# Altium footprint library Connector_PinSocket_1.27mm.PcbLib: 246 footprints (part 4 of 16)
Each footprint in its own frame and in the unit in brackets; x right, y up, seen from the top. Pads: shape width x height; smd on the part's side, far side on the other; paste and mask are expansions set on the pad; w line width, h text height; cw(c..) or ccw(c..) is an arc to the next point about the centre after c.
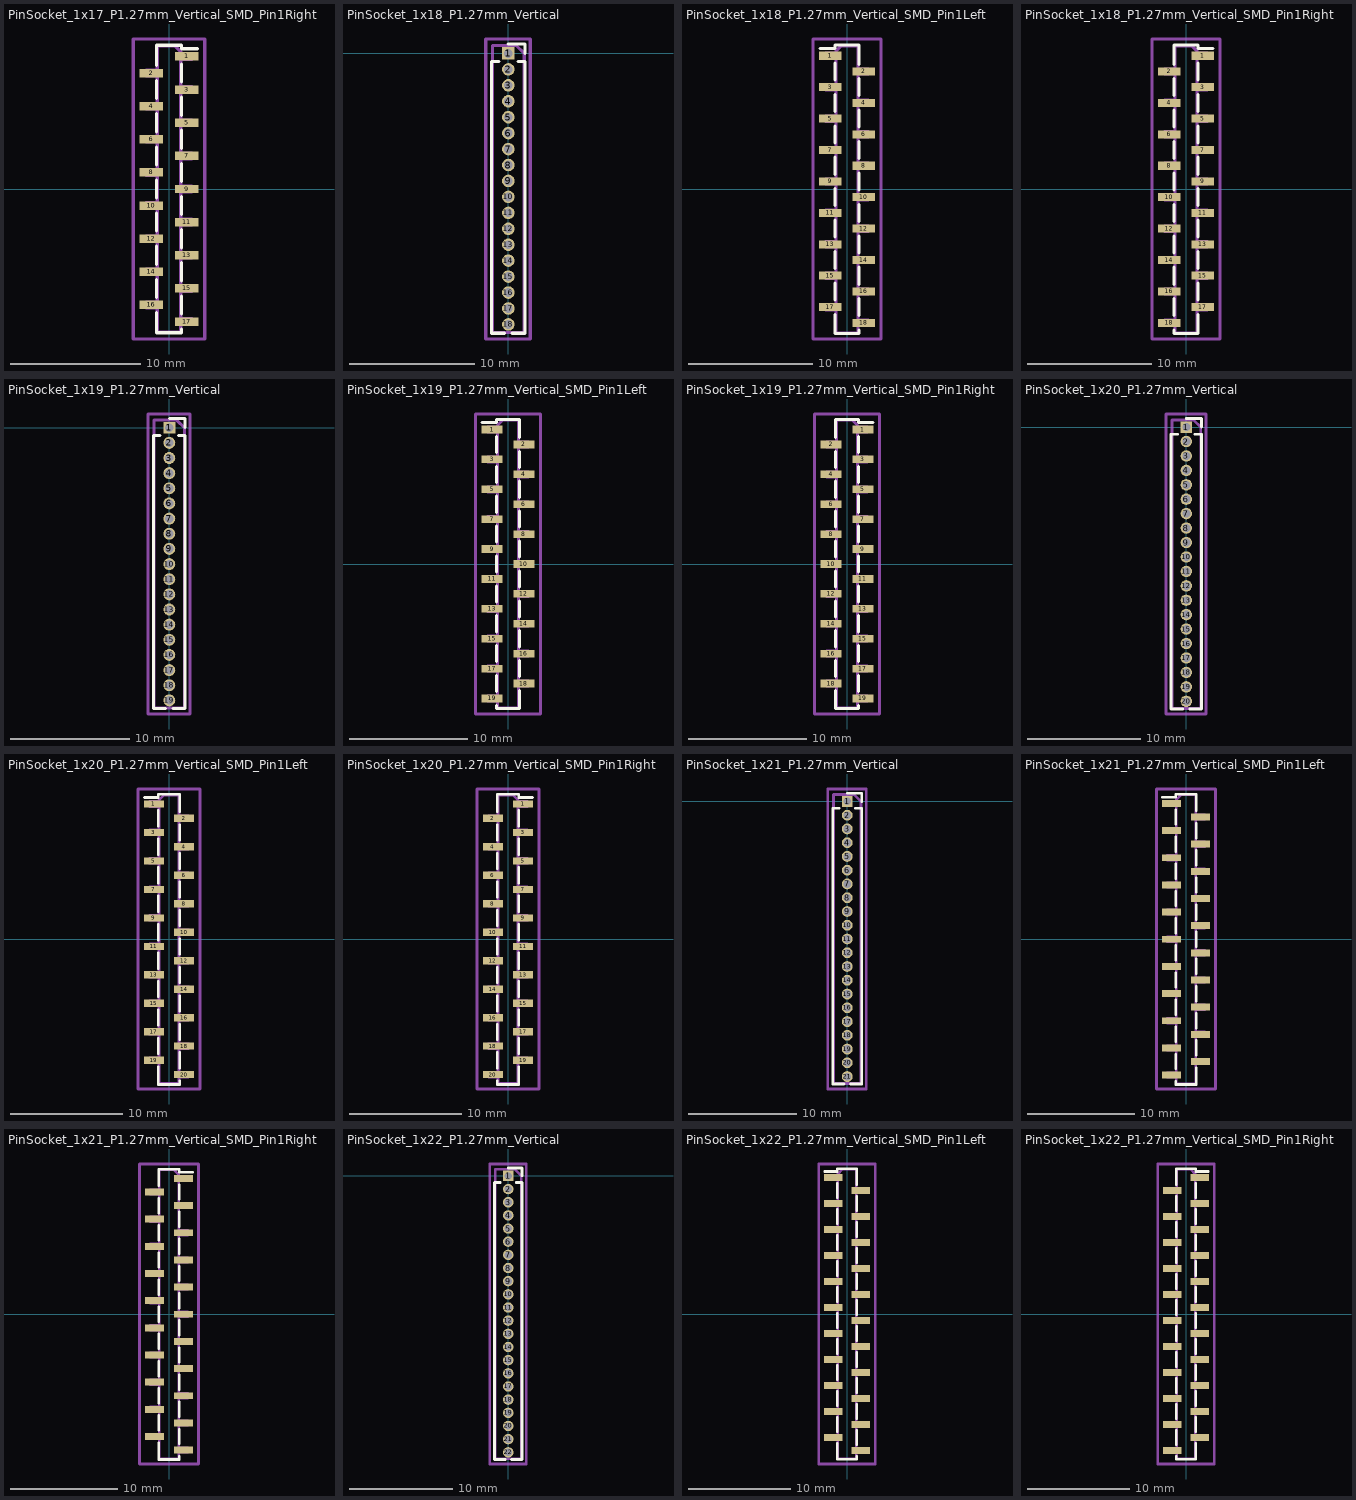
[diagram p3: the footprints below, top view; thin cyan lines are the x and y axes]

## PinSocket_1x17_P1.27mm_Vertical_SMD_Pin1Right [mm]
pads (17):
  rect 1.8x0.65 smd: 1(1.35,10.16) 2(-1.35,8.89) 3(1.35,7.62) 4(-1.35,6.35) 5(1.35,5.08) 6(-1.35,3.81) 7(1.35,2.54) 8(-1.35,1.27) 9(1.35,0) 10(-1.35,-1.27) 11(1.35,-2.54) 12(-1.35,-3.81) 13(1.35,-5.08) 14(-1.35,-6.35) 15(1.35,-7.62) 16(-1.35,-8.89) 17(1.35,-10.16)
F.SilkS:
  lines w0.254: -0.96,-9.475 -0.96,-11.03 0.96,-11.03 0.96,-10.745 ; -0.96,-8.305 -0.96,-6.935 ; -0.96,-5.765 -0.96,-4.395 ; -0.96,-3.225 -0.96,-1.855 ; -0.96,-0.685 -0.96,0.685 ; -0.96,1.855 -0.96,3.225 ; -0.96,4.395 -0.96,5.765 ; -0.96,6.935 -0.96,8.305 ; -0.96,9.475 -0.96,11.03 0.96,11.03 0.96,10.745 2.19,10.745 ; 0.96,-9.575 0.96,-8.205 ; 0.96,-7.035 0.96,-5.665 ; 0.96,-4.495 0.96,-3.125 ; 0.96,-1.955 0.96,-0.585 ; 0.96,0.585 0.96,1.955 ; 0.96,3.125 0.96,4.495 ; 0.96,5.665 0.96,7.035 ; 0.96,8.205 0.96,9.575
Top Assembly:
  lines w0.254: -0.9,-9.1 -1.75,-9.1 -1.75,-8.68 -0.9,-8.68 ; -0.9,-6.56 -1.75,-6.56 -1.75,-6.14 -0.9,-6.14 ; -0.9,-4.02 -1.75,-4.02 -1.75,-3.6 -0.9,-3.6 ; -0.9,-1.48 -1.75,-1.48 -1.75,-1.06 -0.9,-1.06 ; -0.9,1.06 -1.75,1.06 -1.75,1.48 -0.9,1.48 ; -0.9,3.6 -1.75,3.6 -1.75,4.02 -0.9,4.02 ; -0.9,6.14 -1.75,6.14 -1.75,6.56 -0.9,6.56 ; -0.9,8.68 -1.75,8.68 -1.75,9.1 -0.9,9.1 ; 0.9,-10.37 1.75,-10.37 1.75,-9.95 0.9,-9.95 ; 0.9,-7.83 1.75,-7.83 1.75,-7.41 0.9,-7.41 ; 0.9,-5.29 1.75,-5.29 1.75,-4.87 0.9,-4.87 ; 0.9,-2.75 1.75,-2.75 1.75,-2.33 0.9,-2.33 ; 0.9,-0.21 1.75,-0.21 1.75,0.21 0.9,0.21 ; 0.9,2.33 1.75,2.33 1.75,2.75 0.9,2.75 ; 0.9,4.87 1.75,4.87 1.75,5.29 0.9,5.29 ; 0.9,7.41 1.75,7.41 1.75,7.83 0.9,7.83 ; 0.9,9.95 1.75,9.95 1.75,10.37 0.9,10.37 ; -0.9,-10.97 0.9,-10.97 0.9,10.52 0.45,10.97 -0.9,10.97 -0.9,-10.97
  text "'.Designator'" at 0.84,-4.047 h1
Top Courtyard:
  lines w0.254: -2.75,-11.5 2.75,-11.5 2.75,11.5 -2.75,11.5 -2.75,-11.5
Top Designator:
  text ".Designator" at -7.618,-0.508 h1.52

## PinSocket_1x18_P1.27mm_Vertical [mm]
pads (18):
  rect 1x1 hole 0.7: 1(0,0)
  round 1 hole 0.7: 2(0,-1.27) 3(0,-2.54) 4(0,-3.81) 5(0,-5.08) 6(0,-6.35) 7(0,-7.62) 8(0,-8.89) 9(0,-10.16) 10(0,-11.43) 11(0,-12.7) 12(0,-13.97) 13(0,-15.24) 14(0,-16.51) 15(0,-17.78) 16(0,-19.05) 17(0,-20.32) 18(0,-21.59)
F.SilkS:
  lines w0.254: -0.76,-0.635 -1.33,-0.635 -1.33,-22.285 -0.308,-22.285 ; 0,0.76 1.33,0.76 1.33,0 ; 0.308,-22.285 1.33,-22.285 1.33,-0.635 0.76,-0.635
Top Assembly:
  lines w0.254: -1.27,-22.225 1.27,-22.225 1.27,0 0.635,0.635 -1.27,0.635 -1.27,-22.225
  text "'.Designator'" at 0.84,-14.842 h1
Top Courtyard:
  lines w0.254: -1.8,-22.75 1.75,-22.75 1.75,1.15 -1.8,1.15 -1.8,-22.75
Top Designator:
  text ".Designator" at -7.643,-11.308 h1.52

## PinSocket_1x18_P1.27mm_Vertical_SMD_Pin1Left [mm]
pads (18):
  rect 1.8x0.65 smd: 1(-1.35,10.795) 2(1.35,9.525) 3(-1.35,8.255) 4(1.35,6.985) 5(-1.35,5.715) 6(1.35,4.445) 7(-1.35,3.175) 8(1.35,1.905) 9(-1.35,0.635) 10(1.35,-0.635) 11(-1.35,-1.905) 12(1.35,-3.175) 13(-1.35,-4.445) 14(1.35,-5.715) 15(-1.35,-6.985) 16(1.35,-8.255) 17(-1.35,-9.525) 18(1.35,-10.795)
F.SilkS:
  lines w0.254: -2.19,11.38 -0.96,11.38 -0.96,11.665 0.96,11.665 0.96,10.11 ; -0.96,-10.11 -0.96,-11.665 0.96,-11.665 0.96,-11.38 ; -0.96,-8.94 -0.96,-7.57 ; -0.96,-6.4 -0.96,-5.03 ; -0.96,-3.86 -0.96,-2.49 ; -0.96,-1.32 -0.96,0.05 ; -0.96,1.22 -0.96,2.59 ; -0.96,3.76 -0.96,5.13 ; -0.96,6.3 -0.96,7.67 ; -0.96,8.84 -0.96,10.21 ; 0.96,-10.21 0.96,-8.84 ; 0.96,-7.67 0.96,-6.3 ; 0.96,-5.13 0.96,-3.76 ; 0.96,-2.59 0.96,-1.22 ; 0.96,-0.05 0.96,1.32 ; 0.96,2.49 0.96,3.86 ; 0.96,5.03 0.96,6.4 ; 0.96,7.57 0.96,8.94
Top Assembly:
  lines w0.254: -0.9,-9.735 -1.75,-9.735 -1.75,-9.315 -0.9,-9.315 ; -0.9,-7.195 -1.75,-7.195 -1.75,-6.775 -0.9,-6.775 ; -0.9,-4.655 -1.75,-4.655 -1.75,-4.235 -0.9,-4.235 ; -0.9,-2.115 -1.75,-2.115 -1.75,-1.695 -0.9,-1.695 ; -0.9,0.425 -1.75,0.425 -1.75,0.845 -0.9,0.845 ; -0.9,2.965 -1.75,2.965 -1.75,3.385 -0.9,3.385 ; -0.9,5.505 -1.75,5.505 -1.75,5.925 -0.9,5.925 ; -0.9,8.045 -1.75,8.045 -1.75,8.465 -0.9,8.465 ; -0.9,10.585 -1.75,10.585 -1.75,11.005 -0.9,11.005 ; 0.9,-11.005 1.75,-11.005 1.75,-10.585 0.9,-10.585 ; 0.9,-8.465 1.75,-8.465 1.75,-8.045 0.9,-8.045 ; 0.9,-5.925 1.75,-5.925 1.75,-5.505 0.9,-5.505 ; 0.9,-3.385 1.75,-3.385 1.75,-2.965 0.9,-2.965 ; 0.9,-0.845 1.75,-0.845 1.75,-0.425 0.9,-0.425 ; 0.9,1.695 1.75,1.695 1.75,2.115 0.9,2.115 ; 0.9,4.235 1.75,4.235 1.75,4.655 0.9,4.655 ; 0.9,6.775 1.75,6.775 1.75,7.195 0.9,7.195 ; 0.9,9.315 1.75,9.315 1.75,9.735 0.9,9.735 ; -0.9,-11.605 0.9,-11.605 0.9,11.605 -0.45,11.605 -0.9,11.155 -0.9,-11.605
  text "'.Designator'" at 0.84,-4.047 h1
Top Courtyard:
  lines w0.254: -2.75,-12.1 2.75,-12.1 2.75,12.15 -2.75,12.15 -2.75,-12.1
Top Designator:
  text ".Designator" at -7.618,-0.483 h1.52

## PinSocket_1x18_P1.27mm_Vertical_SMD_Pin1Right [mm]
pads (18):
  rect 1.8x0.65 smd: 1(1.35,10.795) 2(-1.35,9.525) 3(1.35,8.255) 4(-1.35,6.985) 5(1.35,5.715) 6(-1.35,4.445) 7(1.35,3.175) 8(-1.35,1.905) 9(1.35,0.635) 10(-1.35,-0.635) 11(1.35,-1.905) 12(-1.35,-3.175) 13(1.35,-4.445) 14(-1.35,-5.715) 15(1.35,-6.985) 16(-1.35,-8.255) 17(1.35,-9.525) 18(-1.35,-10.795)
F.SilkS:
  lines w0.254: -0.96,-11.38 -0.96,-11.665 0.96,-11.665 0.96,-10.11 ; -0.96,-10.21 -0.96,-8.84 ; -0.96,-7.67 -0.96,-6.3 ; -0.96,-5.13 -0.96,-3.76 ; -0.96,-2.59 -0.96,-1.22 ; -0.96,-0.05 -0.96,1.32 ; -0.96,2.49 -0.96,3.86 ; -0.96,5.03 -0.96,6.4 ; -0.96,7.57 -0.96,8.94 ; -0.96,10.11 -0.96,11.665 0.96,11.665 0.96,11.38 2.19,11.38 ; 0.96,-8.94 0.96,-7.57 ; 0.96,-6.4 0.96,-5.03 ; 0.96,-3.86 0.96,-2.49 ; 0.96,-1.32 0.96,0.05 ; 0.96,1.22 0.96,2.59 ; 0.96,3.76 0.96,5.13 ; 0.96,6.3 0.96,7.67 ; 0.96,8.84 0.96,10.21
Top Assembly:
  lines w0.254: -0.9,-11.005 -1.75,-11.005 -1.75,-10.585 -0.9,-10.585 ; -0.9,-8.465 -1.75,-8.465 -1.75,-8.045 -0.9,-8.045 ; -0.9,-5.925 -1.75,-5.925 -1.75,-5.505 -0.9,-5.505 ; -0.9,-3.385 -1.75,-3.385 -1.75,-2.965 -0.9,-2.965 ; -0.9,-0.845 -1.75,-0.845 -1.75,-0.425 -0.9,-0.425 ; -0.9,1.695 -1.75,1.695 -1.75,2.115 -0.9,2.115 ; -0.9,4.235 -1.75,4.235 -1.75,4.655 -0.9,4.655 ; -0.9,6.775 -1.75,6.775 -1.75,7.195 -0.9,7.195 ; -0.9,9.315 -1.75,9.315 -1.75,9.735 -0.9,9.735 ; 0.9,-9.735 1.75,-9.735 1.75,-9.315 0.9,-9.315 ; 0.9,-7.195 1.75,-7.195 1.75,-6.775 0.9,-6.775 ; 0.9,-4.655 1.75,-4.655 1.75,-4.235 0.9,-4.235 ; 0.9,-2.115 1.75,-2.115 1.75,-1.695 0.9,-1.695 ; 0.9,0.425 1.75,0.425 1.75,0.845 0.9,0.845 ; 0.9,2.965 1.75,2.965 1.75,3.385 0.9,3.385 ; 0.9,5.505 1.75,5.505 1.75,5.925 0.9,5.925 ; 0.9,8.045 1.75,8.045 1.75,8.465 0.9,8.465 ; 0.9,10.585 1.75,10.585 1.75,11.005 0.9,11.005 ; -0.9,-11.605 0.9,-11.605 0.9,11.155 0.45,11.605 -0.9,11.605 -0.9,-11.605
  text "'.Designator'" at 0.84,-4.047 h1
Top Courtyard:
  lines w0.254: -2.75,-12.1 2.75,-12.1 2.75,12.15 -2.75,12.15 -2.75,-12.1
Top Designator:
  text ".Designator" at -7.618,-0.483 h1.52

## PinSocket_1x19_P1.27mm_Vertical [mm]
pads (19):
  rect 1x1 hole 0.7: 1(0,0)
  round 1 hole 0.7: 2(0,-1.27) 3(0,-2.54) 4(0,-3.81) 5(0,-5.08) 6(0,-6.35) 7(0,-7.62) 8(0,-8.89) 9(0,-10.16) 10(0,-11.43) 11(0,-12.7) 12(0,-13.97) 13(0,-15.24) 14(0,-16.51) 15(0,-17.78) 16(0,-19.05) 17(0,-20.32) 18(0,-21.59) 19(0,-22.86)
F.SilkS:
  lines w0.254: -0.76,-0.635 -1.33,-0.635 -1.33,-23.555 -0.308,-23.555 ; 0,0.76 1.33,0.76 1.33,0 ; 0.308,-23.555 1.33,-23.555 1.33,-0.635 0.76,-0.635
Top Assembly:
  lines w0.254: -1.27,-23.495 1.27,-23.495 1.27,0 0.635,0.635 -1.27,0.635 -1.27,-23.495
  text "'.Designator'" at 0.84,-15.477 h1
Top Courtyard:
  lines w0.254: -1.8,-24 1.75,-24 1.75,1.15 -1.8,1.15 -1.8,-24
Top Designator:
  text ".Designator" at -7.643,-11.933 h1.52

## PinSocket_1x19_P1.27mm_Vertical_SMD_Pin1Left [mm]
pads (19):
  rect 1.8x0.65 smd: 1(-1.35,11.43) 2(1.35,10.16) 3(-1.35,8.89) 4(1.35,7.62) 5(-1.35,6.35) 6(1.35,5.08) 7(-1.35,3.81) 8(1.35,2.54) 9(-1.35,1.27) 10(1.35,0) 11(-1.35,-1.27) 12(1.35,-2.54) 13(-1.35,-3.81) 14(1.35,-5.08) 15(-1.35,-6.35) 16(1.35,-7.62) 17(-1.35,-8.89) 18(1.35,-10.16) 19(-1.35,-11.43)
F.SilkS:
  lines w0.254: -2.19,12.015 -0.96,12.015 -0.96,12.3 0.96,12.3 0.96,10.745 ; -0.96,-12.015 -0.96,-12.3 0.96,-12.3 0.96,-10.745 ; -0.96,-10.845 -0.96,-9.475 ; -0.96,-8.305 -0.96,-6.935 ; -0.96,-5.765 -0.96,-4.395 ; -0.96,-3.225 -0.96,-1.855 ; -0.96,-0.685 -0.96,0.685 ; -0.96,1.855 -0.96,3.225 ; -0.96,4.395 -0.96,5.765 ; -0.96,6.935 -0.96,8.305 ; -0.96,9.475 -0.96,10.845 ; 0.96,-9.575 0.96,-8.205 ; 0.96,-7.035 0.96,-5.665 ; 0.96,-4.495 0.96,-3.125 ; 0.96,-1.955 0.96,-0.585 ; 0.96,0.585 0.96,1.955 ; 0.96,3.125 0.96,4.495 ; 0.96,5.665 0.96,7.035 ; 0.96,8.205 0.96,9.575
Top Assembly:
  lines w0.254: -0.9,-11.64 -1.75,-11.64 -1.75,-11.22 -0.9,-11.22 ; -0.9,-9.1 -1.75,-9.1 -1.75,-8.68 -0.9,-8.68 ; -0.9,-6.56 -1.75,-6.56 -1.75,-6.14 -0.9,-6.14 ; -0.9,-4.02 -1.75,-4.02 -1.75,-3.6 -0.9,-3.6 ; -0.9,-1.48 -1.75,-1.48 -1.75,-1.06 -0.9,-1.06 ; -0.9,1.06 -1.75,1.06 -1.75,1.48 -0.9,1.48 ; -0.9,3.6 -1.75,3.6 -1.75,4.02 -0.9,4.02 ; -0.9,6.14 -1.75,6.14 -1.75,6.56 -0.9,6.56 ; -0.9,8.68 -1.75,8.68 -1.75,9.1 -0.9,9.1 ; -0.9,11.22 -1.75,11.22 -1.75,11.64 -0.9,11.64 ; 0.9,-10.37 1.75,-10.37 1.75,-9.95 0.9,-9.95 ; 0.9,-7.83 1.75,-7.83 1.75,-7.41 0.9,-7.41 ; 0.9,-5.29 1.75,-5.29 1.75,-4.87 0.9,-4.87 ; 0.9,-2.75 1.75,-2.75 1.75,-2.33 0.9,-2.33 ; 0.9,-0.21 1.75,-0.21 1.75,0.21 0.9,0.21 ; 0.9,2.33 1.75,2.33 1.75,2.75 0.9,2.75 ; 0.9,4.87 1.75,4.87 1.75,5.29 0.9,5.29 ; 0.9,7.41 1.75,7.41 1.75,7.83 0.9,7.83 ; 0.9,9.95 1.75,9.95 1.75,10.37 0.9,10.37 ; -0.9,-12.24 0.9,-12.24 0.9,12.24 -0.45,12.24 -0.9,11.79 -0.9,-12.24
  text "'.Designator'" at 0.84,-4.047 h1
Top Courtyard:
  lines w0.254: -2.75,-12.75 2.75,-12.75 2.75,12.75 -2.75,12.75 -2.75,-12.75
Top Designator:
  text ".Designator" at -7.618,-0.508 h1.52

## PinSocket_1x19_P1.27mm_Vertical_SMD_Pin1Right [mm]
pads (19):
  rect 1.8x0.65 smd: 1(1.35,11.43) 2(-1.35,10.16) 3(1.35,8.89) 4(-1.35,7.62) 5(1.35,6.35) 6(-1.35,5.08) 7(1.35,3.81) 8(-1.35,2.54) 9(1.35,1.27) 10(-1.35,0) 11(1.35,-1.27) 12(-1.35,-2.54) 13(1.35,-3.81) 14(-1.35,-5.08) 15(1.35,-6.35) 16(-1.35,-7.62) 17(1.35,-8.89) 18(-1.35,-10.16) 19(1.35,-11.43)
F.SilkS:
  lines w0.254: -0.96,-10.745 -0.96,-12.3 0.96,-12.3 0.96,-12.015 ; -0.96,-9.575 -0.96,-8.205 ; -0.96,-7.035 -0.96,-5.665 ; -0.96,-4.495 -0.96,-3.125 ; -0.96,-1.955 -0.96,-0.585 ; -0.96,0.585 -0.96,1.955 ; -0.96,3.125 -0.96,4.495 ; -0.96,5.665 -0.96,7.035 ; -0.96,8.205 -0.96,9.575 ; -0.96,10.745 -0.96,12.3 0.96,12.3 0.96,12.015 2.19,12.015 ; 0.96,-10.845 0.96,-9.475 ; 0.96,-8.305 0.96,-6.935 ; 0.96,-5.765 0.96,-4.395 ; 0.96,-3.225 0.96,-1.855 ; 0.96,-0.685 0.96,0.685 ; 0.96,1.855 0.96,3.225 ; 0.96,4.395 0.96,5.765 ; 0.96,6.935 0.96,8.305 ; 0.96,9.475 0.96,10.845
Top Assembly:
  lines w0.254: -0.9,-10.37 -1.75,-10.37 -1.75,-9.95 -0.9,-9.95 ; -0.9,-7.83 -1.75,-7.83 -1.75,-7.41 -0.9,-7.41 ; -0.9,-5.29 -1.75,-5.29 -1.75,-4.87 -0.9,-4.87 ; -0.9,-2.75 -1.75,-2.75 -1.75,-2.33 -0.9,-2.33 ; -0.9,-0.21 -1.75,-0.21 -1.75,0.21 -0.9,0.21 ; -0.9,2.33 -1.75,2.33 -1.75,2.75 -0.9,2.75 ; -0.9,4.87 -1.75,4.87 -1.75,5.29 -0.9,5.29 ; -0.9,7.41 -1.75,7.41 -1.75,7.83 -0.9,7.83 ; -0.9,9.95 -1.75,9.95 -1.75,10.37 -0.9,10.37 ; 0.9,-11.64 1.75,-11.64 1.75,-11.22 0.9,-11.22 ; 0.9,-9.1 1.75,-9.1 1.75,-8.68 0.9,-8.68 ; 0.9,-6.56 1.75,-6.56 1.75,-6.14 0.9,-6.14 ; 0.9,-4.02 1.75,-4.02 1.75,-3.6 0.9,-3.6 ; 0.9,-1.48 1.75,-1.48 1.75,-1.06 0.9,-1.06 ; 0.9,1.06 1.75,1.06 1.75,1.48 0.9,1.48 ; 0.9,3.6 1.75,3.6 1.75,4.02 0.9,4.02 ; 0.9,6.14 1.75,6.14 1.75,6.56 0.9,6.56 ; 0.9,8.68 1.75,8.68 1.75,9.1 0.9,9.1 ; 0.9,11.22 1.75,11.22 1.75,11.64 0.9,11.64 ; -0.9,-12.24 0.9,-12.24 0.9,11.79 0.45,12.24 -0.9,12.24 -0.9,-12.24
  text "'.Designator'" at 0.84,-4.047 h1
Top Courtyard:
  lines w0.254: -2.75,-12.75 2.75,-12.75 2.75,12.75 -2.75,12.75 -2.75,-12.75
Top Designator:
  text ".Designator" at -7.618,-0.508 h1.52

## PinSocket_1x20_P1.27mm_Vertical [mm]
pads (20):
  rect 1x1 hole 0.7: 1(0,0)
  round 1 hole 0.7: 2(0,-1.27) 3(0,-2.54) 4(0,-3.81) 5(0,-5.08) 6(0,-6.35) 7(0,-7.62) 8(0,-8.89) 9(0,-10.16) 10(0,-11.43) 11(0,-12.7) 12(0,-13.97) 13(0,-15.24) 14(0,-16.51) 15(0,-17.78) 16(0,-19.05) 17(0,-20.32) 18(0,-21.59) 19(0,-22.86) 20(0,-24.13)
F.SilkS:
  lines w0.254: -0.76,-0.635 -1.33,-0.635 -1.33,-24.825 -0.308,-24.825 ; 0,0.76 1.33,0.76 1.33,0 ; 0.308,-24.825 1.33,-24.825 1.33,-0.635 0.76,-0.635
Top Assembly:
  lines w0.254: -1.27,-24.765 1.27,-24.765 1.27,0 0.635,0.635 -1.27,0.635 -1.27,-24.765
  text "'.Designator'" at 0.84,-16.112 h1
Top Courtyard:
  lines w0.254: -1.8,-25.25 1.75,-25.25 1.75,1.15 -1.8,1.15 -1.8,-25.25
Top Designator:
  text ".Designator" at -7.643,-12.558 h1.52

## PinSocket_1x20_P1.27mm_Vertical_SMD_Pin1Left [mm]
pads (20):
  rect 1.8x0.65 smd: 1(-1.35,12.065) 2(1.35,10.795) 3(-1.35,9.525) 4(1.35,8.255) 5(-1.35,6.985) 6(1.35,5.715) 7(-1.35,4.445) 8(1.35,3.175) 9(-1.35,1.905) 10(1.35,0.635) 11(-1.35,-0.635) 12(1.35,-1.905) 13(-1.35,-3.175) 14(1.35,-4.445) 15(-1.35,-5.715) 16(1.35,-6.985) 17(-1.35,-8.255) 18(1.35,-9.525) 19(-1.35,-10.795) 20(1.35,-12.065)
F.SilkS:
  lines w0.254: -2.19,12.65 -0.96,12.65 -0.96,12.935 0.96,12.935 0.96,11.38 ; -0.96,-11.38 -0.96,-12.935 0.96,-12.935 0.96,-12.65 ; -0.96,-10.21 -0.96,-8.84 ; -0.96,-7.67 -0.96,-6.3 ; -0.96,-5.13 -0.96,-3.76 ; -0.96,-2.59 -0.96,-1.22 ; -0.96,-0.05 -0.96,1.32 ; -0.96,2.49 -0.96,3.86 ; -0.96,5.03 -0.96,6.4 ; -0.96,7.57 -0.96,8.94 ; -0.96,10.11 -0.96,11.48 ; 0.96,-11.48 0.96,-10.11 ; 0.96,-8.94 0.96,-7.57 ; 0.96,-6.4 0.96,-5.03 ; 0.96,-3.86 0.96,-2.49 ; 0.96,-1.32 0.96,0.05 ; 0.96,1.22 0.96,2.59 ; 0.96,3.76 0.96,5.13 ; 0.96,6.3 0.96,7.67 ; 0.96,8.84 0.96,10.21
Top Assembly:
  lines w0.254: -0.9,-11.005 -1.75,-11.005 -1.75,-10.585 -0.9,-10.585 ; -0.9,-8.465 -1.75,-8.465 -1.75,-8.045 -0.9,-8.045 ; -0.9,-5.925 -1.75,-5.925 -1.75,-5.505 -0.9,-5.505 ; -0.9,-3.385 -1.75,-3.385 -1.75,-2.965 -0.9,-2.965 ; -0.9,-0.845 -1.75,-0.845 -1.75,-0.425 -0.9,-0.425 ; -0.9,1.695 -1.75,1.695 -1.75,2.115 -0.9,2.115 ; -0.9,4.235 -1.75,4.235 -1.75,4.655 -0.9,4.655 ; -0.9,6.775 -1.75,6.775 -1.75,7.195 -0.9,7.195 ; -0.9,9.315 -1.75,9.315 -1.75,9.735 -0.9,9.735 ; -0.9,11.855 -1.75,11.855 -1.75,12.275 -0.9,12.275 ; 0.9,-12.275 1.75,-12.275 1.75,-11.855 0.9,-11.855 ; 0.9,-9.735 1.75,-9.735 1.75,-9.315 0.9,-9.315 ; 0.9,-7.195 1.75,-7.195 1.75,-6.775 0.9,-6.775 ; 0.9,-4.655 1.75,-4.655 1.75,-4.235 0.9,-4.235 ; 0.9,-2.115 1.75,-2.115 1.75,-1.695 0.9,-1.695 ; 0.9,0.425 1.75,0.425 1.75,0.845 0.9,0.845 ; 0.9,2.965 1.75,2.965 1.75,3.385 0.9,3.385 ; 0.9,5.505 1.75,5.505 1.75,5.925 0.9,5.925 ; 0.9,8.045 1.75,8.045 1.75,8.465 0.9,8.465 ; 0.9,10.585 1.75,10.585 1.75,11.005 0.9,11.005 ; -0.9,-12.875 0.9,-12.875 0.9,12.875 -0.45,12.875 -0.9,12.425 -0.9,-12.875
  text "'.Designator'" at 0.84,-4.047 h1
Top Courtyard:
  lines w0.254: -2.75,-13.35 2.75,-13.35 2.75,13.4 -2.75,13.4 -2.75,-13.35
Top Designator:
  text ".Designator" at -7.618,-0.483 h1.52

## PinSocket_1x20_P1.27mm_Vertical_SMD_Pin1Right [mm]
pads (20):
  rect 1.8x0.65 smd: 1(1.35,12.065) 2(-1.35,10.795) 3(1.35,9.525) 4(-1.35,8.255) 5(1.35,6.985) 6(-1.35,5.715) 7(1.35,4.445) 8(-1.35,3.175) 9(1.35,1.905) 10(-1.35,0.635) 11(1.35,-0.635) 12(-1.35,-1.905) 13(1.35,-3.175) 14(-1.35,-4.445) 15(1.35,-5.715) 16(-1.35,-6.985) 17(1.35,-8.255) 18(-1.35,-9.525) 19(1.35,-10.795) 20(-1.35,-12.065)
F.SilkS:
  lines w0.254: -0.96,-12.65 -0.96,-12.935 0.96,-12.935 0.96,-11.38 ; -0.96,-11.48 -0.96,-10.11 ; -0.96,-8.94 -0.96,-7.57 ; -0.96,-6.4 -0.96,-5.03 ; -0.96,-3.86 -0.96,-2.49 ; -0.96,-1.32 -0.96,0.05 ; -0.96,1.22 -0.96,2.59 ; -0.96,3.76 -0.96,5.13 ; -0.96,6.3 -0.96,7.67 ; -0.96,8.84 -0.96,10.21 ; -0.96,11.38 -0.96,12.935 0.96,12.935 0.96,12.65 2.19,12.65 ; 0.96,-10.21 0.96,-8.84 ; 0.96,-7.67 0.96,-6.3 ; 0.96,-5.13 0.96,-3.76 ; 0.96,-2.59 0.96,-1.22 ; 0.96,-0.05 0.96,1.32 ; 0.96,2.49 0.96,3.86 ; 0.96,5.03 0.96,6.4 ; 0.96,7.57 0.96,8.94 ; 0.96,10.11 0.96,11.48
Top Assembly:
  lines w0.254: -0.9,-12.275 -1.75,-12.275 -1.75,-11.855 -0.9,-11.855 ; -0.9,-9.735 -1.75,-9.735 -1.75,-9.315 -0.9,-9.315 ; -0.9,-7.195 -1.75,-7.195 -1.75,-6.775 -0.9,-6.775 ; -0.9,-4.655 -1.75,-4.655 -1.75,-4.235 -0.9,-4.235 ; -0.9,-2.115 -1.75,-2.115 -1.75,-1.695 -0.9,-1.695 ; -0.9,0.425 -1.75,0.425 -1.75,0.845 -0.9,0.845 ; -0.9,2.965 -1.75,2.965 -1.75,3.385 -0.9,3.385 ; -0.9,5.505 -1.75,5.505 -1.75,5.925 -0.9,5.925 ; -0.9,8.045 -1.75,8.045 -1.75,8.465 -0.9,8.465 ; -0.9,10.585 -1.75,10.585 -1.75,11.005 -0.9,11.005 ; 0.9,-11.005 1.75,-11.005 1.75,-10.585 0.9,-10.585 ; 0.9,-8.465 1.75,-8.465 1.75,-8.045 0.9,-8.045 ; 0.9,-5.925 1.75,-5.925 1.75,-5.505 0.9,-5.505 ; 0.9,-3.385 1.75,-3.385 1.75,-2.965 0.9,-2.965 ; 0.9,-0.845 1.75,-0.845 1.75,-0.425 0.9,-0.425 ; 0.9,1.695 1.75,1.695 1.75,2.115 0.9,2.115 ; 0.9,4.235 1.75,4.235 1.75,4.655 0.9,4.655 ; 0.9,6.775 1.75,6.775 1.75,7.195 0.9,7.195 ; 0.9,9.315 1.75,9.315 1.75,9.735 0.9,9.735 ; 0.9,11.855 1.75,11.855 1.75,12.275 0.9,12.275 ; -0.9,-12.875 0.9,-12.875 0.9,12.425 0.45,12.875 -0.9,12.875 -0.9,-12.875
  text "'.Designator'" at 0.84,-4.047 h1
Top Courtyard:
  lines w0.254: -2.75,-13.35 2.75,-13.35 2.75,13.4 -2.75,13.4 -2.75,-13.35
Top Designator:
  text ".Designator" at -7.618,-0.483 h1.52

## PinSocket_1x21_P1.27mm_Vertical [mm]
pads (21):
  rect 1x1 hole 0.7: 1(0,0)
  round 1 hole 0.7: 2(0,-1.27) 3(0,-2.54) 4(0,-3.81) 5(0,-5.08) 6(0,-6.35) 7(0,-7.62) 8(0,-8.89) 9(0,-10.16) 10(0,-11.43) 11(0,-12.7) 12(0,-13.97) 13(0,-15.24) 14(0,-16.51) 15(0,-17.78) 16(0,-19.05) 17(0,-20.32) 18(0,-21.59) 19(0,-22.86) 20(0,-24.13) 21(0,-25.4)
F.SilkS:
  lines w0.254: -0.76,-0.635 -1.33,-0.635 -1.33,-26.095 -0.308,-26.095 ; 0,0.76 1.33,0.76 1.33,0 ; 0.308,-26.095 1.33,-26.095 1.33,-0.635 0.76,-0.635
Top Assembly:
  lines w0.254: -1.27,-26.035 1.27,-26.035 1.27,0 0.635,0.635 -1.27,0.635 -1.27,-26.035
  text "'.Designator'" at 0.84,-16.747 h1
Top Courtyard:
  lines w0.254: -1.8,-26.55 1.75,-26.55 1.75,1.15 -1.8,1.15 -1.8,-26.55
Top Designator:
  text ".Designator" at -7.643,-13.208 h1.52

## PinSocket_1x21_P1.27mm_Vertical_SMD_Pin1Left [mm]
pads (21):
  rect 1.8x0.65 smd: 1(-1.35,12.7) 2(1.35,11.43) 3(-1.35,10.16) 4(1.35,8.89) 5(-1.35,7.62) 6(1.35,6.35) 7(-1.35,5.08) 8(1.35,3.81) 9(-1.35,2.54) 10(1.35,1.27) 11(-1.35,0) 12(1.35,-1.27) 13(-1.35,-2.54) 14(1.35,-3.81) 15(-1.35,-5.08) 16(1.35,-6.35) 17(-1.35,-7.62) 18(1.35,-8.89) 19(-1.35,-10.16) 20(1.35,-11.43) 21(-1.35,-12.7)
F.SilkS:
  lines w0.254: -2.19,13.285 -0.96,13.285 -0.96,13.57 0.96,13.57 0.96,12.015 ; -0.96,-13.285 -0.96,-13.57 0.96,-13.57 0.96,-12.015 ; -0.96,-12.115 -0.96,-10.745 ; -0.96,-9.575 -0.96,-8.205 ; -0.96,-7.035 -0.96,-5.665 ; -0.96,-4.495 -0.96,-3.125 ; -0.96,-1.955 -0.96,-0.585 ; -0.96,0.585 -0.96,1.955 ; -0.96,3.125 -0.96,4.495 ; -0.96,5.665 -0.96,7.035 ; -0.96,8.205 -0.96,9.575 ; -0.96,10.745 -0.96,12.115 ; 0.96,-10.845 0.96,-9.475 ; 0.96,-8.305 0.96,-6.935 ; 0.96,-5.765 0.96,-4.395 ; 0.96,-3.225 0.96,-1.855 ; 0.96,-0.685 0.96,0.685 ; 0.96,1.855 0.96,3.225 ; 0.96,4.395 0.96,5.765 ; 0.96,6.935 0.96,8.305 ; 0.96,9.475 0.96,10.845
Top Assembly:
  lines w0.254: -0.9,-12.91 -1.75,-12.91 -1.75,-12.49 -0.9,-12.49 ; -0.9,-10.37 -1.75,-10.37 -1.75,-9.95 -0.9,-9.95 ; -0.9,-7.83 -1.75,-7.83 -1.75,-7.41 -0.9,-7.41 ; -0.9,-5.29 -1.75,-5.29 -1.75,-4.87 -0.9,-4.87 ; -0.9,-2.75 -1.75,-2.75 -1.75,-2.33 -0.9,-2.33 ; -0.9,-0.21 -1.75,-0.21 -1.75,0.21 -0.9,0.21 ; -0.9,2.33 -1.75,2.33 -1.75,2.75 -0.9,2.75 ; -0.9,4.87 -1.75,4.87 -1.75,5.29 -0.9,5.29 ; -0.9,7.41 -1.75,7.41 -1.75,7.83 -0.9,7.83 ; -0.9,9.95 -1.75,9.95 -1.75,10.37 -0.9,10.37 ; -0.9,12.49 -1.75,12.49 -1.75,12.91 -0.9,12.91 ; 0.9,-11.64 1.75,-11.64 1.75,-11.22 0.9,-11.22 ; 0.9,-9.1 1.75,-9.1 1.75,-8.68 0.9,-8.68 ; 0.9,-6.56 1.75,-6.56 1.75,-6.14 0.9,-6.14 ; 0.9,-4.02 1.75,-4.02 1.75,-3.6 0.9,-3.6 ; 0.9,-1.48 1.75,-1.48 1.75,-1.06 0.9,-1.06 ; 0.9,1.06 1.75,1.06 1.75,1.48 0.9,1.48 ; 0.9,3.6 1.75,3.6 1.75,4.02 0.9,4.02 ; 0.9,6.14 1.75,6.14 1.75,6.56 0.9,6.56 ; 0.9,8.68 1.75,8.68 1.75,9.1 0.9,9.1 ; 0.9,11.22 1.75,11.22 1.75,11.64 0.9,11.64 ; -0.9,-13.51 0.9,-13.51 0.9,13.51 -0.45,13.51 -0.9,13.06 -0.9,-13.51
  text "'.Designator'" at 0.84,-4.047 h1
Top Courtyard:
  lines w0.254: -2.75,-14 2.75,-14 2.75,14.05 -2.75,14.05 -2.75,-14
Top Designator:
  text ".Designator" at -7.618,-0.483 h1.52

## PinSocket_1x21_P1.27mm_Vertical_SMD_Pin1Right [mm]
pads (21):
  rect 1.8x0.65 smd: 1(1.35,12.7) 2(-1.35,11.43) 3(1.35,10.16) 4(-1.35,8.89) 5(1.35,7.62) 6(-1.35,6.35) 7(1.35,5.08) 8(-1.35,3.81) 9(1.35,2.54) 10(-1.35,1.27) 11(1.35,0) 12(-1.35,-1.27) 13(1.35,-2.54) 14(-1.35,-3.81) 15(1.35,-5.08) 16(-1.35,-6.35) 17(1.35,-7.62) 18(-1.35,-8.89) 19(1.35,-10.16) 20(-1.35,-11.43) 21(1.35,-12.7)
F.SilkS:
  lines w0.254: -0.96,-12.015 -0.96,-13.57 0.96,-13.57 0.96,-13.285 ; -0.96,-10.845 -0.96,-9.475 ; -0.96,-8.305 -0.96,-6.935 ; -0.96,-5.765 -0.96,-4.395 ; -0.96,-3.225 -0.96,-1.855 ; -0.96,-0.685 -0.96,0.685 ; -0.96,1.855 -0.96,3.225 ; -0.96,4.395 -0.96,5.765 ; -0.96,6.935 -0.96,8.305 ; -0.96,9.475 -0.96,10.845 ; -0.96,12.015 -0.96,13.57 0.96,13.57 0.96,13.285 2.19,13.285 ; 0.96,-12.115 0.96,-10.745 ; 0.96,-9.575 0.96,-8.205 ; 0.96,-7.035 0.96,-5.665 ; 0.96,-4.495 0.96,-3.125 ; 0.96,-1.955 0.96,-0.585 ; 0.96,0.585 0.96,1.955 ; 0.96,3.125 0.96,4.495 ; 0.96,5.665 0.96,7.035 ; 0.96,8.205 0.96,9.575 ; 0.96,10.745 0.96,12.115
Top Assembly:
  lines w0.254: -0.9,-11.64 -1.75,-11.64 -1.75,-11.22 -0.9,-11.22 ; -0.9,-9.1 -1.75,-9.1 -1.75,-8.68 -0.9,-8.68 ; -0.9,-6.56 -1.75,-6.56 -1.75,-6.14 -0.9,-6.14 ; -0.9,-4.02 -1.75,-4.02 -1.75,-3.6 -0.9,-3.6 ; -0.9,-1.48 -1.75,-1.48 -1.75,-1.06 -0.9,-1.06 ; -0.9,1.06 -1.75,1.06 -1.75,1.48 -0.9,1.48 ; -0.9,3.6 -1.75,3.6 -1.75,4.02 -0.9,4.02 ; -0.9,6.14 -1.75,6.14 -1.75,6.56 -0.9,6.56 ; -0.9,8.68 -1.75,8.68 -1.75,9.1 -0.9,9.1 ; -0.9,11.22 -1.75,11.22 -1.75,11.64 -0.9,11.64 ; 0.9,-12.91 1.75,-12.91 1.75,-12.49 0.9,-12.49 ; 0.9,-10.37 1.75,-10.37 1.75,-9.95 0.9,-9.95 ; 0.9,-7.83 1.75,-7.83 1.75,-7.41 0.9,-7.41 ; 0.9,-5.29 1.75,-5.29 1.75,-4.87 0.9,-4.87 ; 0.9,-2.75 1.75,-2.75 1.75,-2.33 0.9,-2.33 ; 0.9,-0.21 1.75,-0.21 1.75,0.21 0.9,0.21 ; 0.9,2.33 1.75,2.33 1.75,2.75 0.9,2.75 ; 0.9,4.87 1.75,4.87 1.75,5.29 0.9,5.29 ; 0.9,7.41 1.75,7.41 1.75,7.83 0.9,7.83 ; 0.9,9.95 1.75,9.95 1.75,10.37 0.9,10.37 ; 0.9,12.49 1.75,12.49 1.75,12.91 0.9,12.91 ; -0.9,-13.51 0.9,-13.51 0.9,13.06 0.45,13.51 -0.9,13.51 -0.9,-13.51
  text "'.Designator'" at 0.84,-4.047 h1
Top Courtyard:
  lines w0.254: -2.75,-14 2.75,-14 2.75,14.05 -2.75,14.05 -2.75,-14
Top Designator:
  text ".Designator" at -7.618,-0.483 h1.52

## PinSocket_1x22_P1.27mm_Vertical [mm]
pads (22):
  rect 1x1 hole 0.7: 1(0,0)
  round 1 hole 0.7: 2(0,-1.27) 3(0,-2.54) 4(0,-3.81) 5(0,-5.08) 6(0,-6.35) 7(0,-7.62) 8(0,-8.89) 9(0,-10.16) 10(0,-11.43) 11(0,-12.7) 12(0,-13.97) 13(0,-15.24) 14(0,-16.51) 15(0,-17.78) 16(0,-19.05) 17(0,-20.32) 18(0,-21.59) 19(0,-22.86) 20(0,-24.13) 21(0,-25.4) 22(0,-26.67)
F.SilkS:
  lines w0.254: -0.76,-0.635 -1.33,-0.635 -1.33,-27.365 -0.308,-27.365 ; 0,0.76 1.33,0.76 1.33,0 ; 0.308,-27.365 1.33,-27.365 1.33,-0.635 0.76,-0.635
Top Assembly:
  lines w0.254: -1.27,-27.305 1.27,-27.305 1.27,0 0.635,0.635 -1.27,0.635 -1.27,-27.305
  text "'.Designator'" at 0.84,-17.382 h1
Top Courtyard:
  lines w0.254: -1.8,-27.8 1.75,-27.8 1.75,1.15 -1.8,1.15 -1.8,-27.8
Top Designator:
  text ".Designator" at -7.643,-13.833 h1.52

## PinSocket_1x22_P1.27mm_Vertical_SMD_Pin1Left [mm]
pads (22):
  rect 1.8x0.65 smd: 1(-1.35,13.335) 2(1.35,12.065) 3(-1.35,10.795) 4(1.35,9.525) 5(-1.35,8.255) 6(1.35,6.985) 7(-1.35,5.715) 8(1.35,4.445) 9(-1.35,3.175) 10(1.35,1.905) 11(-1.35,0.635) 12(1.35,-0.635) 13(-1.35,-1.905) 14(1.35,-3.175) 15(-1.35,-4.445) 16(1.35,-5.715) 17(-1.35,-6.985) 18(1.35,-8.255) 19(-1.35,-9.525) 20(1.35,-10.795) 21(-1.35,-12.065) 22(1.35,-13.335)
F.SilkS:
  lines w0.254: -2.19,13.92 -0.96,13.92 -0.96,14.205 0.96,14.205 0.96,12.65 ; -0.96,-12.65 -0.96,-14.205 0.96,-14.205 0.96,-13.92 ; -0.96,-11.48 -0.96,-10.11 ; -0.96,-8.94 -0.96,-7.57 ; -0.96,-6.4 -0.96,-5.03 ; -0.96,-3.86 -0.96,-2.49 ; -0.96,-1.32 -0.96,0.05 ; -0.96,1.22 -0.96,2.59 ; -0.96,3.76 -0.96,5.13 ; -0.96,6.3 -0.96,7.67 ; -0.96,8.84 -0.96,10.21 ; -0.96,11.38 -0.96,12.75 ; 0.96,-12.75 0.96,-11.38 ; 0.96,-10.21 0.96,-8.84 ; 0.96,-7.67 0.96,-6.3 ; 0.96,-5.13 0.96,-3.76 ; 0.96,-2.59 0.96,-1.22 ; 0.96,-0.05 0.96,1.32 ; 0.96,2.49 0.96,3.86 ; 0.96,5.03 0.96,6.4 ; 0.96,7.57 0.96,8.94 ; 0.96,10.11 0.96,11.48
Top Assembly:
  lines w0.254: -0.9,-12.275 -1.75,-12.275 -1.75,-11.855 -0.9,-11.855 ; -0.9,-9.735 -1.75,-9.735 -1.75,-9.315 -0.9,-9.315 ; -0.9,-7.195 -1.75,-7.195 -1.75,-6.775 -0.9,-6.775 ; -0.9,-4.655 -1.75,-4.655 -1.75,-4.235 -0.9,-4.235 ; -0.9,-2.115 -1.75,-2.115 -1.75,-1.695 -0.9,-1.695 ; -0.9,0.425 -1.75,0.425 -1.75,0.845 -0.9,0.845 ; -0.9,2.965 -1.75,2.965 -1.75,3.385 -0.9,3.385 ; -0.9,5.505 -1.75,5.505 -1.75,5.925 -0.9,5.925 ; -0.9,8.045 -1.75,8.045 -1.75,8.465 -0.9,8.465 ; -0.9,10.585 -1.75,10.585 -1.75,11.005 -0.9,11.005 ; -0.9,13.125 -1.75,13.125 -1.75,13.545 -0.9,13.545 ; 0.9,-13.545 1.75,-13.545 1.75,-13.125 0.9,-13.125 ; 0.9,-11.005 1.75,-11.005 1.75,-10.585 0.9,-10.585 ; 0.9,-8.465 1.75,-8.465 1.75,-8.045 0.9,-8.045 ; 0.9,-5.925 1.75,-5.925 1.75,-5.505 0.9,-5.505 ; 0.9,-3.385 1.75,-3.385 1.75,-2.965 0.9,-2.965 ; 0.9,-0.845 1.75,-0.845 1.75,-0.425 0.9,-0.425 ; 0.9,1.695 1.75,1.695 1.75,2.115 0.9,2.115 ; 0.9,4.235 1.75,4.235 1.75,4.655 0.9,4.655 ; 0.9,6.775 1.75,6.775 1.75,7.195 0.9,7.195 ; 0.9,9.315 1.75,9.315 1.75,9.735 0.9,9.735 ; 0.9,11.855 1.75,11.855 1.75,12.275 0.9,12.275 ; -0.9,-14.145 0.9,-14.145 0.9,14.145 -0.45,14.145 -0.9,13.695 -0.9,-14.145
  text "'.Designator'" at 0.84,-4.047 h1
Top Courtyard:
  lines w0.254: -2.75,-14.65 2.75,-14.65 2.75,14.65 -2.75,14.65 -2.75,-14.65
Top Designator:
  text ".Designator" at -7.618,-0.508 h1.52

## PinSocket_1x22_P1.27mm_Vertical_SMD_Pin1Right [mm]
pads (22):
  rect 1.8x0.65 smd: 1(1.35,13.335) 2(-1.35,12.065) 3(1.35,10.795) 4(-1.35,9.525) 5(1.35,8.255) 6(-1.35,6.985) 7(1.35,5.715) 8(-1.35,4.445) 9(1.35,3.175) 10(-1.35,1.905) 11(1.35,0.635) 12(-1.35,-0.635) 13(1.35,-1.905) 14(-1.35,-3.175) 15(1.35,-4.445) 16(-1.35,-5.715) 17(1.35,-6.985) 18(-1.35,-8.255) 19(1.35,-9.525) 20(-1.35,-10.795) 21(1.35,-12.065) 22(-1.35,-13.335)
F.SilkS:
  lines w0.254: -0.96,-13.92 -0.96,-14.205 0.96,-14.205 0.96,-12.65 ; -0.96,-12.75 -0.96,-11.38 ; -0.96,-10.21 -0.96,-8.84 ; -0.96,-7.67 -0.96,-6.3 ; -0.96,-5.13 -0.96,-3.76 ; -0.96,-2.59 -0.96,-1.22 ; -0.96,-0.05 -0.96,1.32 ; -0.96,2.49 -0.96,3.86 ; -0.96,5.03 -0.96,6.4 ; -0.96,7.57 -0.96,8.94 ; -0.96,10.11 -0.96,11.48 ; -0.96,12.65 -0.96,14.205 0.96,14.205 0.96,13.92 2.19,13.92 ; 0.96,-11.48 0.96,-10.11 ; 0.96,-8.94 0.96,-7.57 ; 0.96,-6.4 0.96,-5.03 ; 0.96,-3.86 0.96,-2.49 ; 0.96,-1.32 0.96,0.05 ; 0.96,1.22 0.96,2.59 ; 0.96,3.76 0.96,5.13 ; 0.96,6.3 0.96,7.67 ; 0.96,8.84 0.96,10.21 ; 0.96,11.38 0.96,12.75
Top Assembly:
  lines w0.254: -0.9,-13.545 -1.75,-13.545 -1.75,-13.125 -0.9,-13.125 ; -0.9,-11.005 -1.75,-11.005 -1.75,-10.585 -0.9,-10.585 ; -0.9,-8.465 -1.75,-8.465 -1.75,-8.045 -0.9,-8.045 ; -0.9,-5.925 -1.75,-5.925 -1.75,-5.505 -0.9,-5.505 ; -0.9,-3.385 -1.75,-3.385 -1.75,-2.965 -0.9,-2.965 ; -0.9,-0.845 -1.75,-0.845 -1.75,-0.425 -0.9,-0.425 ; -0.9,1.695 -1.75,1.695 -1.75,2.115 -0.9,2.115 ; -0.9,4.235 -1.75,4.235 -1.75,4.655 -0.9,4.655 ; -0.9,6.775 -1.75,6.775 -1.75,7.195 -0.9,7.195 ; -0.9,9.315 -1.75,9.315 -1.75,9.735 -0.9,9.735 ; -0.9,11.855 -1.75,11.855 -1.75,12.275 -0.9,12.275 ; 0.9,-12.275 1.75,-12.275 1.75,-11.855 0.9,-11.855 ; 0.9,-9.735 1.75,-9.735 1.75,-9.315 0.9,-9.315 ; 0.9,-7.195 1.75,-7.195 1.75,-6.775 0.9,-6.775 ; 0.9,-4.655 1.75,-4.655 1.75,-4.235 0.9,-4.235 ; 0.9,-2.115 1.75,-2.115 1.75,-1.695 0.9,-1.695 ; 0.9,0.425 1.75,0.425 1.75,0.845 0.9,0.845 ; 0.9,2.965 1.75,2.965 1.75,3.385 0.9,3.385 ; 0.9,5.505 1.75,5.505 1.75,5.925 0.9,5.925 ; 0.9,8.045 1.75,8.045 1.75,8.465 0.9,8.465 ; 0.9,10.585 1.75,10.585 1.75,11.005 0.9,11.005 ; 0.9,13.125 1.75,13.125 1.75,13.545 0.9,13.545 ; -0.9,-14.145 0.9,-14.145 0.9,13.695 0.45,14.145 -0.9,14.145 -0.9,-14.145
  text "'.Designator'" at 0.84,-4.047 h1
Top Courtyard:
  lines w0.254: -2.75,-14.65 2.75,-14.65 2.75,14.65 -2.75,14.65 -2.75,-14.65
Top Designator:
  text ".Designator" at -7.618,-0.508 h1.52